# EAGLE library part DAC7554 (library TI)
4 Channels 12 bit, SPI, Digital to Analog Converter (Texas Instruments)
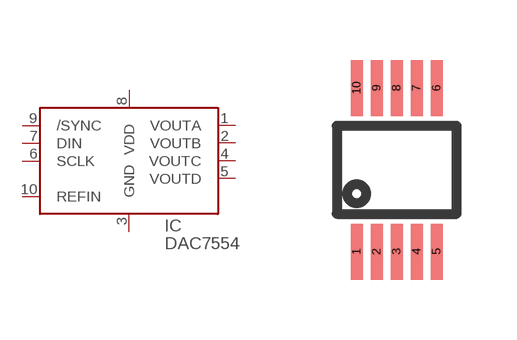
[diagram p2: symbol with the pads of MSOP10; footprint MSOP10]

Designator prefix IC

## DAC7554DGS  [MSOP10]
1  VOUTA
2  VOUTB
3  GND  pwr
4  VOUTC
5  VOUTD
6  SCLK
7  DIN
8  VDD  pwr
9  /SYNC
10  REFIN

## Footprint MSOP10 (pad centres in mm)
MSOP 10 package, 0.5mm pitch
smd 0.3 x 1.4: 1 -1,-2.05; 2 -0.5,-2.05; 3 0,-2.05; 4 0.5,-2.05; 5 1,-2.05; 6 1,2.05; 7 0.5,2.05; 8 0,2.05; 9 -0.5,2.05; 10 -1,2.05